# Altium integrated library ALTIUM-WE-GFH-rev16a.IntLib: 45 symbols
Pins are listed as number, name and electrical type; pins without a type are passive.

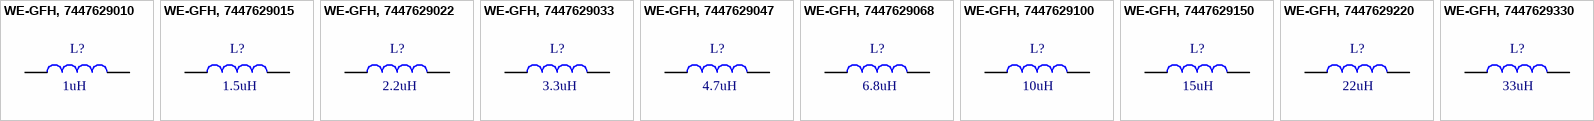
[diagram p0: symbols WE-GFH, 7447629010 to WE-GFH, 7447629330]

## WE-GFH, 7447629010
designator L?  value 1uH
WE-GFH High Frequency SMD Inductor, size 2520, 1uH; PartNumber: 7447629010; PublishedDate: Sep. 2016; Publisher: Wurth Elektronik; ComponentLink1Description: Manufacturer; ComponentLink1URL: http://www.we-online.de; ComponentLink2Description: Datasheet; ComponentLink2URL: http://katalog.we-online.de/pbs/datasheet/7447629010.pdf; Size: 2520
footprint WE-GFH_2520
pins: 1, 2

## WE-GFH, 7447629015
designator L?  value 1.5uH
WE-GFH High Frequency SMD Inductor, size 2520, 1.5uH; PartNumber: 7447629015; PublishedDate: Sep. 2016; Publisher: Wurth Elektronik; ComponentLink1Description: Manufacturer; ComponentLink1URL: http://www.we-online.de; ComponentLink2Description: Datasheet; ComponentLink2URL: http://katalog.we-online.de/pbs/datasheet/7447629015.pdf; Size: 2520
footprint WE-GFH_2520
pins: 1, 2

## WE-GFH, 7447629022
designator L?  value 2.2uH
WE-GFH High Frequency SMD Inductor, size 2520, 2.2uH; PartNumber: 7447629022; PublishedDate: Sep. 2016; Publisher: Wurth Elektronik; ComponentLink1Description: Manufacturer; ComponentLink1URL: http://www.we-online.de; ComponentLink2Description: Datasheet; ComponentLink2URL: http://katalog.we-online.de/pbs/datasheet/7447629022.pdf; Size: 2520
footprint WE-GFH_2520
pins: 1, 2

## WE-GFH, 7447629033
designator L?  value 3.3uH
WE-GFH High Frequency SMD Inductor, size 2520, 3.3uH; PartNumber: 7447629033; PublishedDate: Sep. 2016; Publisher: Wurth Elektronik; ComponentLink1Description: Manufacturer; ComponentLink1URL: http://www.we-online.de; ComponentLink2Description: Datasheet; ComponentLink2URL: http://katalog.we-online.de/pbs/datasheet/7447629033.pdf; Size: 2520
footprint WE-GFH_2520
pins: 1, 2

## WE-GFH, 7447629047
designator L?  value 4.7uH
WE-GFH High Frequency SMD Inductor, size 2520, 4.7uH; PartNumber: 7447629047; PublishedDate: Sep. 2016; Publisher: Wurth Elektronik; ComponentLink1Description: Manufacturer; ComponentLink1URL: http://www.we-online.de; ComponentLink2Description: Datasheet; ComponentLink2URL: http://katalog.we-online.de/pbs/datasheet/7447629047.pdf; Size: 2520
footprint WE-GFH_2520
pins: 1, 2

## WE-GFH, 7447629068
designator L?  value 6.8uH
WE-GFH High Frequency SMD Inductor, size 2520, 6.8uH; PartNumber: 7447629068; PublishedDate: Sep. 2016; Publisher: Wurth Elektronik; ComponentLink1Description: Manufacturer; ComponentLink1URL: http://www.we-online.de; ComponentLink2Description: Datasheet; ComponentLink2URL: http://katalog.we-online.de/pbs/datasheet/7447629068.pdf; Size: 2520
footprint WE-GFH_2520
pins: 1, 2

## WE-GFH, 7447629100
designator L?  value 10uH
WE-GFH High Frequency SMD Inductor, size 2520, 10uH; PartNumber: 7447629100; PublishedDate: Sep. 2016; Publisher: Wurth Elektronik; ComponentLink1Description: Manufacturer; ComponentLink1URL: http://www.we-online.de; ComponentLink2Description: Datasheet; ComponentLink2URL: http://katalog.we-online.de/pbs/datasheet/7447629100.pdf; Size: 2520
footprint WE-GFH_2520
pins: 1, 2

## WE-GFH, 7447629150
designator L?  value 15uH
WE-GFH High Frequency SMD Inductor, size 2520, 15uH; PartNumber: 7447629150; PublishedDate: Sep. 2016; Publisher: Wurth Elektronik; ComponentLink1Description: Manufacturer; ComponentLink1URL: http://www.we-online.de; ComponentLink2Description: Datasheet; ComponentLink2URL: http://katalog.we-online.de/pbs/datasheet/7447629150.pdf; Size: 2520
footprint WE-GFH_2520
pins: 1, 2

## WE-GFH, 7447629220
designator L?  value 22uH
WE-GFH High Frequency SMD Inductor, size 2520, 22uH; PartNumber: 7447629220; PublishedDate: Sep. 2016; Publisher: Wurth Elektronik; ComponentLink1Description: Manufacturer; ComponentLink1URL: http://www.we-online.de; ComponentLink2Description: Datasheet; ComponentLink2URL: http://katalog.we-online.de/pbs/datasheet/7447629220.pdf; Size: 2520
footprint WE-GFH_2520
pins: 1, 2

## WE-GFH, 7447629330
designator L?  value 33uH
WE-GFH High Frequency SMD Inductor, size 2520, 33uH; PartNumber: 7447629330; PublishedDate: Sep. 2016; Publisher: Wurth Elektronik; ComponentLink1Description: Manufacturer; ComponentLink1URL: http://www.we-online.de; ComponentLink2Description: Datasheet; ComponentLink2URL: http://katalog.we-online.de/pbs/datasheet/7447629330.pdf; Size: 2520
footprint WE-GFH_2520
pins: 1, 2


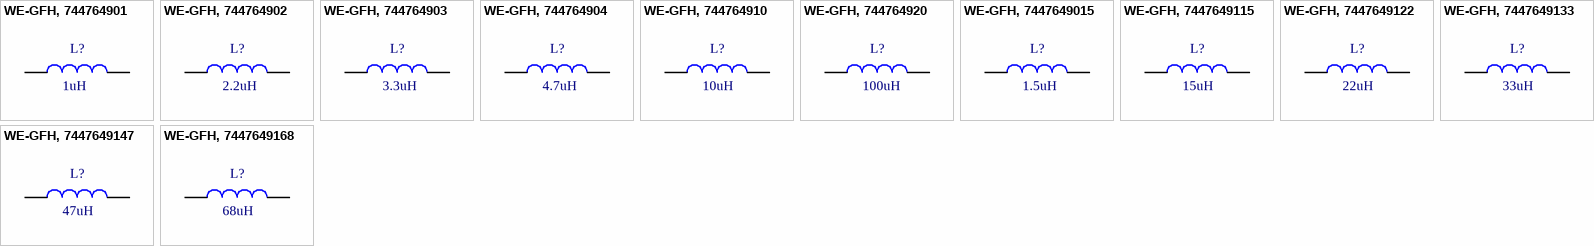
[diagram p1: symbols WE-GFH, 744764901 to WE-GFH, 7447649168]

## WE-GFH, 744764901
designator L?  value 1uH
WE-GFH High Frequency SMD Inductor, size 3225, 1uH; PartNumber: 744764901; PublishedDate: Sep. 2016; Publisher: Wurth Elektronik; ComponentLink1Description: Manufacturer; ComponentLink1URL: http://www.we-online.de; ComponentLink2Description: Datasheet; ComponentLink2URL: http://katalog.we-online.de/pbs/datasheet/744764901.pdf; Size: 3225
footprint WE-GFH_3225
pins: 1, 2

## WE-GFH, 744764902
designator L?  value 2.2uH
WE-GFH High Frequency SMD Inductor, size 3225, 2.2uH; PartNumber: 744764902; PublishedDate: Sep. 2016; Publisher: Wurth Elektronik; ComponentLink1Description: Manufacturer; ComponentLink1URL: http://www.we-online.de; ComponentLink2Description: Datasheet; ComponentLink2URL: http://katalog.we-online.de/pbs/datasheet/744764902.pdf; Size: 3225
footprint WE-GFH_3225
pins: 1, 2

## WE-GFH, 744764903
designator L?  value 3.3uH
WE-GFH High Frequency SMD Inductor, size 3225, 3.3uH; PartNumber: 744764903; PublishedDate: Sep. 2016; Publisher: Wurth Elektronik; ComponentLink1Description: Manufacturer; ComponentLink1URL: http://www.we-online.de; ComponentLink2Description: Datasheet; ComponentLink2URL: http://katalog.we-online.de/pbs/datasheet/744764903.pdf; Size: 3225
footprint WE-GFH_3225
pins: 1, 2

## WE-GFH, 744764904
designator L?  value 4.7uH
WE-GFH High Frequency SMD Inductor, size 3225, 4.7uH; PartNumber: 744764904; PublishedDate: Sep. 2016; Publisher: Wurth Elektronik; ComponentLink1Description: Manufacturer; ComponentLink1URL: http://www.we-online.de; ComponentLink2Description: Datasheet; ComponentLink2URL: http://katalog.we-online.de/pbs/datasheet/744764904.pdf; Size: 3225
footprint WE-GFH_3225
pins: 1, 2

## WE-GFH, 744764910
designator L?  value 10uH
WE-GFH High Frequency SMD Inductor, size 3225, 10uH; PartNumber: 744764910; PublishedDate: Sep. 2016; Publisher: Wurth Elektronik; ComponentLink1Description: Manufacturer; ComponentLink1URL: http://www.we-online.de; ComponentLink2Description: Datasheet; ComponentLink2URL: http://katalog.we-online.de/pbs/datasheet/744764910.pdf; Size: 3225
footprint WE-GFH_3225
pins: 1, 2

## WE-GFH, 744764920
designator L?  value 100uH
WE-GFH High Frequency SMD Inductor, size 3225, 100uH; PartNumber: 744764920; PublishedDate: Sep. 2016; Publisher: Wurth Elektronik; ComponentLink1Description: Manufacturer; ComponentLink1URL: http://www.we-online.de; ComponentLink2Description: Datasheet; ComponentLink2URL: http://katalog.we-online.de/pbs/datasheet/744764920.pdf; Size: 3225
footprint WE-GFH_3225
pins: 1, 2

## WE-GFH, 7447649015
designator L?  value 1.5uH
WE-GFH High Frequency SMD Inductor, size 3225, 1.5uH; PartNumber: 7447649015; PublishedDate: Sep. 2016; Publisher: Wurth Elektronik; ComponentLink1Description: Manufacturer; ComponentLink1URL: http://www.we-online.de; ComponentLink2Description: Datasheet; ComponentLink2URL: http://katalog.we-online.de/pbs/datasheet/7447649015.pdf; Size: 3225
footprint WE-GFH_3225
pins: 1, 2

## WE-GFH, 7447649115
designator L?  value 15uH
WE-GFH High Frequency SMD Inductor, size 3225, 15uH; PartNumber: 7447649115; PublishedDate: Sep. 2016; Publisher: Wurth Elektronik; ComponentLink1Description: Manufacturer; ComponentLink1URL: http://www.we-online.de; ComponentLink2Description: Datasheet; ComponentLink2URL: http://katalog.we-online.de/pbs/datasheet/7447649115.pdf; Size: 3225
footprint WE-GFH_3225
pins: 1, 2

## WE-GFH, 7447649122
designator L?  value 22uH
WE-GFH High Frequency SMD Inductor, size 3225, 22uH; PartNumber: 7447649122; PublishedDate: Sep. 2016; Publisher: Wurth Elektronik; ComponentLink1Description: Manufacturer; ComponentLink1URL: http://www.we-online.de; ComponentLink2Description: Datasheet; ComponentLink2URL: http://katalog.we-online.de/pbs/datasheet/7447649122.pdf; Size: 3225
footprint WE-GFH_3225
pins: 1, 2

## WE-GFH, 7447649133
designator L?  value 33uH
WE-GFH High Frequency SMD Inductor, size 3225, 33uH; PartNumber: 7447649133; PublishedDate: Sep. 2016; Publisher: Wurth Elektronik; ComponentLink1Description: Manufacturer; ComponentLink1URL: http://www.we-online.de; ComponentLink2Description: Datasheet; ComponentLink2URL: http://katalog.we-online.de/pbs/datasheet/7447649133.pdf; Size: 3225
footprint WE-GFH_3225
pins: 1, 2

## WE-GFH, 7447649147
designator L?  value 47uH
WE-GFH High Frequency SMD Inductor, size 3225, 47uH; PartNumber: 7447649147; PublishedDate: Sep. 2016; Publisher: Wurth Elektronik; ComponentLink1Description: Manufacturer; ComponentLink1URL: http://www.we-online.de; ComponentLink2Description: Datasheet; ComponentLink2URL: http://katalog.we-online.de/pbs/datasheet/7447649147.pdf; Size: 3225
footprint WE-GFH_3225
pins: 1, 2

## WE-GFH, 7447649168
designator L?  value 68uH
WE-GFH High Frequency SMD Inductor, size 3225, 68uH; PartNumber: 7447649168; PublishedDate: Sep. 2016; Publisher: Wurth Elektronik; ComponentLink1Description: Manufacturer; ComponentLink1URL: http://www.we-online.de; ComponentLink2Description: Datasheet; ComponentLink2URL: http://katalog.we-online.de/pbs/datasheet/7447649168.pdf; Size: 3225
footprint WE-GFH_3225
pins: 1, 2


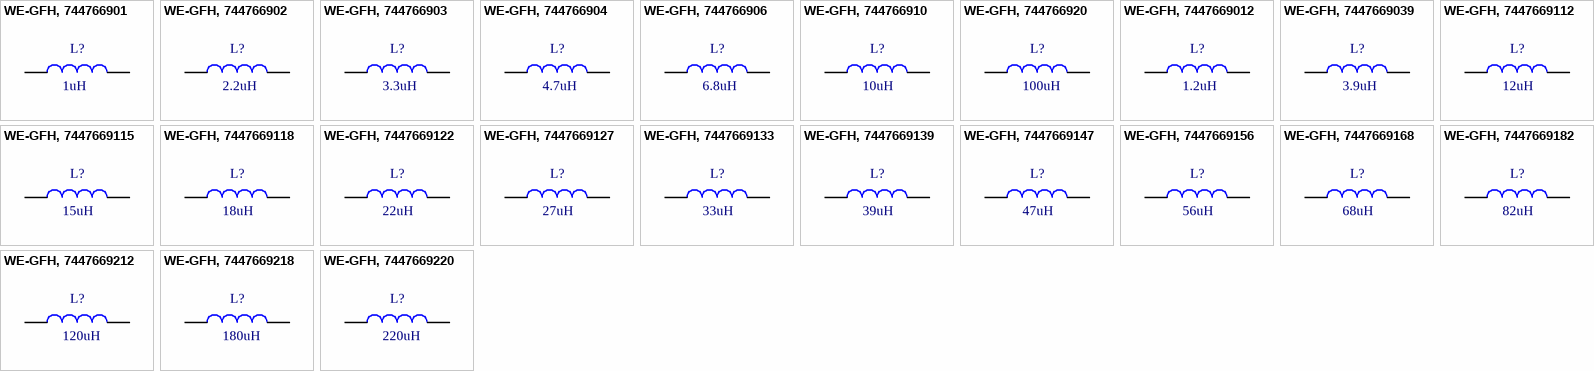
[diagram p2: symbols WE-GFH, 744766901 to WE-GFH, 7447669220]

## WE-GFH, 744766901
designator L?  value 1uH
WE-GFH High Frequency SMD Inductor, size 4532, 1uH; PartNumber: 744766901; PublishedDate: Sep. 2016; Publisher: Wurth Elektronik; ComponentLink1Description: Manufacturer; ComponentLink1URL: http://www.we-online.de; ComponentLink2Description: Datasheet; ComponentLink2URL: http://katalog.we-online.de/pbs/datasheet/744766901.pdf; Size: 4532
footprint WE-GFH_4532
pins: 1, 2

## WE-GFH, 744766902
designator L?  value 2.2uH
WE-GFH High Frequency SMD Inductor, size 4532, 2.2uH; PartNumber: 744766902; PublishedDate: Sep. 2016; Publisher: Wurth Elektronik; ComponentLink1Description: Manufacturer; ComponentLink1URL: http://www.we-online.de; ComponentLink2Description: Datasheet; ComponentLink2URL: http://katalog.we-online.de/pbs/datasheet/744766902.pdf; Size: 4532
footprint WE-GFH_4532
pins: 1, 2

## WE-GFH, 744766903
designator L?  value 3.3uH
WE-GFH High Frequency SMD Inductor, size 4532, 3.3uH; PartNumber: 744766903; PublishedDate: Sep. 2016; Publisher: Wurth Elektronik; ComponentLink1Description: Manufacturer; ComponentLink1URL: http://www.we-online.de; ComponentLink2Description: Datasheet; ComponentLink2URL: http://katalog.we-online.de/pbs/datasheet/744766903.pdf; Size: 4532
footprint WE-GFH_4532
pins: 1, 2

## WE-GFH, 744766904
designator L?  value 4.7uH
WE-GFH High Frequency SMD Inductor, size 4532, 4.7uH; PartNumber: 744766904; PublishedDate: Sep. 2016; Publisher: Wurth Elektronik; ComponentLink1Description: Manufacturer; ComponentLink1URL: http://www.we-online.de; ComponentLink2Description: Datasheet; ComponentLink2URL: http://katalog.we-online.de/pbs/datasheet/744766904.pdf; Size: 4532
footprint WE-GFH_4532
pins: 1, 2

## WE-GFH, 744766906
designator L?  value 6.8uH
WE-GFH High Frequency SMD Inductor, size 4532, 6.8uH; PartNumber: 744766906; PublishedDate: Sep. 2016; Publisher: Wurth Elektronik; ComponentLink1Description: Manufacturer; ComponentLink1URL: http://www.we-online.de; ComponentLink2Description: Datasheet; ComponentLink2URL: http://katalog.we-online.de/pbs/datasheet/744766906.pdf; Size: 4532
footprint WE-GFH_4532
pins: 1, 2

## WE-GFH, 744766910
designator L?  value 10uH
WE-GFH High Frequency SMD Inductor, size 4532, 10uH; PartNumber: 744766910; PublishedDate: Sep. 2016; Publisher: Wurth Elektronik; ComponentLink1Description: Manufacturer; ComponentLink1URL: http://www.we-online.de; ComponentLink2Description: Datasheet; ComponentLink2URL: http://katalog.we-online.de/pbs/datasheet/744766910.pdf; Size: 4532
footprint WE-GFH_4532
pins: 1, 2

## WE-GFH, 744766920
designator L?  value 100uH
WE-GFH High Frequency SMD Inductor, size 4532, 100uH; PartNumber: 744766920; PublishedDate: Sep. 2016; Publisher: Wurth Elektronik; ComponentLink1Description: Manufacturer; ComponentLink1URL: http://www.we-online.de; ComponentLink2Description: Datasheet; ComponentLink2URL: http://katalog.we-online.de/pbs/datasheet/744766920.pdf; Size: 4532
footprint WE-GFH_4532
pins: 1, 2

## WE-GFH, 7447669012
designator L?  value 1.2uH
WE-GFH High Frequency SMD Inductor, size 4532, 1.2uH; PartNumber: 7447669012; PublishedDate: Sep. 2016; Publisher: Wurth Elektronik; ComponentLink1Description: Manufacturer; ComponentLink1URL: http://www.we-online.de; ComponentLink2Description: Datasheet; ComponentLink2URL: http://katalog.we-online.de/pbs/datasheet/7447669012.pdf; Size: 4532
footprint WE-GFH_4532
pins: 1, 2

## WE-GFH, 7447669039
designator L?  value 3.9uH
WE-GFH High Frequency SMD Inductor, size 4532, 3.9uH; PartNumber: 7447669039; PublishedDate: Sep. 2016; Publisher: Wurth Elektronik; ComponentLink1Description: Manufacturer; ComponentLink1URL: http://www.we-online.de; ComponentLink2Description: Datasheet; ComponentLink2URL: http://katalog.we-online.de/pbs/datasheet/7447669039.pdf; Size: 4532
footprint WE-GFH_4532
pins: 1, 2

## WE-GFH, 7447669112
designator L?  value 12uH
WE-GFH High Frequency SMD Inductor, size 4532, 12uH; PartNumber: 7447669112; PublishedDate: Sep. 2016; Publisher: Wurth Elektronik; ComponentLink1Description: Manufacturer; ComponentLink1URL: http://www.we-online.de; ComponentLink2Description: Datasheet; ComponentLink2URL: http://katalog.we-online.de/pbs/datasheet/7447669112.pdf; Size: 4532
footprint WE-GFH_4532
pins: 1, 2

## WE-GFH, 7447669115
designator L?  value 15uH
WE-GFH High Frequency SMD Inductor, size 4532, 15uH; PartNumber: 7447669115; PublishedDate: Sep. 2016; Publisher: Wurth Elektronik; ComponentLink1Description: Manufacturer; ComponentLink1URL: http://www.we-online.de; ComponentLink2Description: Datasheet; ComponentLink2URL: http://katalog.we-online.de/pbs/datasheet/7447669115.pdf; Size: 4532
footprint WE-GFH_4532
pins: 1, 2

## WE-GFH, 7447669118
designator L?  value 18uH
WE-GFH High Frequency SMD Inductor, size 4532, 18uH; PartNumber: 7447669118; PublishedDate: Sep. 2016; Publisher: Wurth Elektronik; ComponentLink1Description: Manufacturer; ComponentLink1URL: http://www.we-online.de; ComponentLink2Description: Datasheet; ComponentLink2URL: http://katalog.we-online.de/pbs/datasheet/7447669118.pdf; Size: 4532
footprint WE-GFH_4532
pins: 1, 2

## WE-GFH, 7447669122
designator L?  value 22uH
WE-GFH High Frequency SMD Inductor, size 4532, 22uH; PartNumber: 7447669122; PublishedDate: Sep. 2016; Publisher: Wurth Elektronik; ComponentLink1Description: Manufacturer; ComponentLink1URL: http://www.we-online.de; ComponentLink2Description: Datasheet; ComponentLink2URL: http://katalog.we-online.de/pbs/datasheet/7447669122.pdf; Size: 4532
footprint WE-GFH_4532
pins: 1, 2

## WE-GFH, 7447669127
designator L?  value 27uH
WE-GFH High Frequency SMD Inductor, size 4532, 27uH; PartNumber: 7447669127; PublishedDate: Sep. 2016; Publisher: Wurth Elektronik; ComponentLink1Description: Manufacturer; ComponentLink1URL: http://www.we-online.de; ComponentLink2Description: Datasheet; ComponentLink2URL: http://katalog.we-online.de/pbs/datasheet/7447669127.pdf; Size: 4532
footprint WE-GFH_4532
pins: 1, 2

## WE-GFH, 7447669133
designator L?  value 33uH
WE-GFH High Frequency SMD Inductor, size 4532, 33uH; PartNumber: 7447669133; PublishedDate: Sep. 2016; Publisher: Wurth Elektronik; ComponentLink1Description: Manufacturer; ComponentLink1URL: http://www.we-online.de; ComponentLink2Description: Datasheet; ComponentLink2URL: http://katalog.we-online.de/pbs/datasheet/7447669133.pdf; Size: 4532
footprint WE-GFH_4532
pins: 1, 2

## WE-GFH, 7447669139
designator L?  value 39uH
WE-GFH High Frequency SMD Inductor, size 4532, 39uH; PartNumber: 7447669139; PublishedDate: Sep. 2016; Publisher: Wurth Elektronik; ComponentLink1Description: Manufacturer; ComponentLink1URL: http://www.we-online.de; ComponentLink2Description: Datasheet; ComponentLink2URL: http://katalog.we-online.de/pbs/datasheet/7447669139.pdf; Size: 4532
footprint WE-GFH_4532
pins: 1, 2

## WE-GFH, 7447669147
designator L?  value 47uH
WE-GFH High Frequency SMD Inductor, size 4532, 47uH; PartNumber: 7447669147; PublishedDate: Sep. 2016; Publisher: Wurth Elektronik; ComponentLink1Description: Manufacturer; ComponentLink1URL: http://www.we-online.de; ComponentLink2Description: Datasheet; ComponentLink2URL: http://katalog.we-online.de/pbs/datasheet/7447669147.pdf; Size: 4532
footprint WE-GFH_4532
pins: 1, 2

## WE-GFH, 7447669156
designator L?  value 56uH
WE-GFH High Frequency SMD Inductor, size 4532, 56uH; PartNumber: 7447669156; PublishedDate: Sep. 2016; Publisher: Wurth Elektronik; ComponentLink1Description: Manufacturer; ComponentLink1URL: http://www.we-online.de; ComponentLink2Description: Datasheet; ComponentLink2URL: http://katalog.we-online.de/pbs/datasheet/7447669156.pdf; Size: 4532
footprint WE-GFH_4532
pins: 1, 2

## WE-GFH, 7447669168
designator L?  value 68uH
WE-GFH High Frequency SMD Inductor, size 4532, 68uH; PartNumber: 7447669168; PublishedDate: Sep. 2016; Publisher: Wurth Elektronik; ComponentLink1Description: Manufacturer; ComponentLink1URL: http://www.we-online.de; ComponentLink2Description: Datasheet; ComponentLink2URL: http://katalog.we-online.de/pbs/datasheet/7447669168.pdf; Size: 4532
footprint WE-GFH_4532
pins: 1, 2

## WE-GFH, 7447669182
designator L?  value 82uH
WE-GFH High Frequency SMD Inductor, size 4532, 82uH; PartNumber: 7447669182; PublishedDate: Sep. 2016; Publisher: Wurth Elektronik; ComponentLink1Description: Manufacturer; ComponentLink1URL: http://www.we-online.de; ComponentLink2Description: Datasheet; ComponentLink2URL: http://katalog.we-online.de/pbs/datasheet/7447669182.pdf; Size: 4532
footprint WE-GFH_4532
pins: 1, 2

## WE-GFH, 7447669212
designator L?  value 120uH
WE-GFH High Frequency SMD Inductor, size 4532, 120uH; PartNumber: 7447669212; PublishedDate: Sep. 2016; Publisher: Wurth Elektronik; ComponentLink1Description: Manufacturer; ComponentLink1URL: http://www.we-online.de; ComponentLink2Description: Datasheet; ComponentLink2URL: http://katalog.we-online.de/pbs/datasheet/7447669212.pdf; Size: 4532
footprint WE-GFH_4532
pins: 1, 2

## WE-GFH, 7447669218
designator L?  value 180uH
WE-GFH High Frequency SMD Inductor, size 4532, 180uH; PartNumber: 7447669218; PublishedDate: Sep. 2016; Publisher: Wurth Elektronik; ComponentLink1Description: Manufacturer; ComponentLink1URL: http://www.we-online.de; ComponentLink2Description: Datasheet; ComponentLink2URL: http://katalog.we-online.de/pbs/datasheet/7447669218.pdf; Size: 4532
footprint WE-GFH_4532
pins: 1, 2

## WE-GFH, 7447669220
designator L?  value 220uH
WE-GFH High Frequency SMD Inductor, size 4532, 220uH; PartNumber: 7447669220; PublishedDate: Sep. 2016; Publisher: Wurth Elektronik; ComponentLink1Description: Manufacturer; ComponentLink1URL: http://www.we-online.de; ComponentLink2Description: Datasheet; ComponentLink2URL: http://katalog.we-online.de/pbs/datasheet/7447669220.pdf; Size: 4532
footprint WE-GFH_4532
pins: 1, 2